# EAGLE library part FLAT-FLEX-CONNECTOR-VERT-08POS (library FlashPCB_Connectors)
FLAT-FLEX-CONNECTOR-VERT-08POS - Flat Flex Connector 8 position Vertical Technical Specifications: Number of Positions: 8 Contact: One Side Mount: Vertical
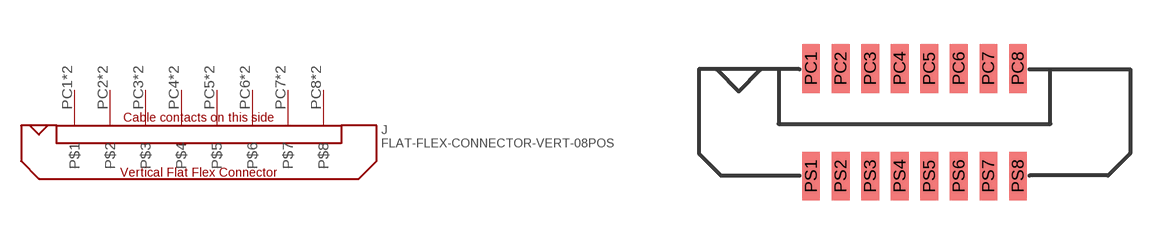
[diagram p122: symbol with the pads of FLAT-FLEX-CONNECTOR-MOLEX-52610-VERT-08POS; footprint FLAT-FLEX-CONNECTOR-MOLEX-52610-VERT-08POS]

Designator prefix J

## FLAT-FLEX-CONNECTOR-VERT-08POS1MM-PITCH  [FLAT-FLEX-CONNECTOR-MOLEX-52610-VERT-08POS]
PC1  P$1
PC2  P$2
PC3  P$3
PC4  P$4
PC5  P$5
PC6  P$6
PC7  P$7
PC8  P$8
PS1  P$1
PS2  P$2
PS3  P$3
PS4  P$4
PS5  P$5
PS6  P$6
PS7  P$7
PS8  P$8

## Footprint FLAT-FLEX-CONNECTOR-MOLEX-52610-VERT-08POS (pad centres in mm)
smd 0.6 x 1.65: PC1 -3.5,1.825; PC2 -2.5,1.825; PC3 -1.5,1.825; PC4 -0.5,1.825; PC5 0.5,1.825; PC6 1.5,1.825; PC7 2.5,1.825; PC8 3.5,1.825; PS1 -3.5,-1.825; PS2 -2.5,-1.825; PS3 -1.5,-1.825; PS4 -0.5,-1.825; PS5 0.5,-1.825; PS6 1.5,-1.825; PS7 2.5,-1.825; PS8 3.5,-1.825